# EAGLE library part TESEO-LIV3F (library teseo-liv3f)
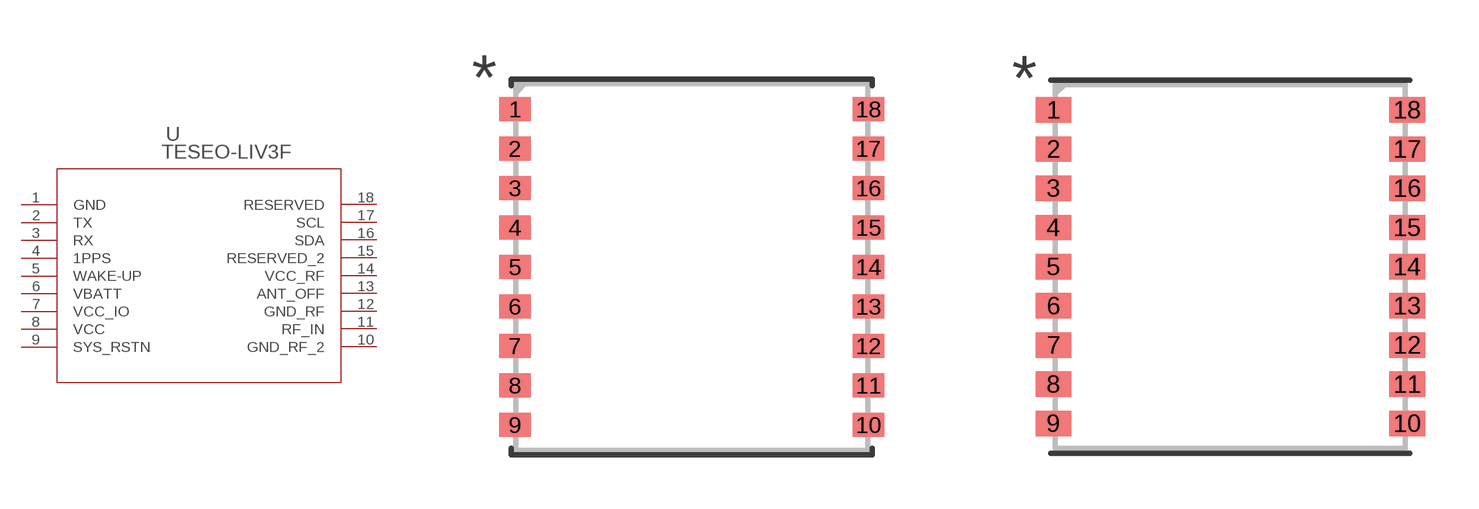
[diagram p0: symbol with the pads of LCC18_9P7X10P1; footprints LCC18_9P7X10P1, LCC18_9P7X10P1-M]

Designator prefix U

## TESEO-LIV3F (BUILT_BY: EMA_Jessica; COPYRIGHT: Copyright (C) 2018 Accelerated Designs. All rights reserved; MANUFACTURER_PART_NUMBER: TESEO-LIV3F; VENDOR: STMicroelectronics)  [LCC18_9P7X10P1]
1  GND  pwr
2  TX  out
3  RX  in
4  1PPS  out
5  WAKE-UP  in
6  VBATT  in
7  VCC_IO  pwr
8  VCC  pwr
9  SYS_RSTN  in
10  GND_RF_2  pwr
11  RF_IN  in
12  GND_RF  pwr
13  ANT_OFF  out
14  VCC_RF  pwr
15  RESERVED_2  in
16  SDA
17  SCL
18  RESERVED  in

## TESEO-LIV3FLCC18_9P7X10P1-M (BUILT_BY: EMA_Jessica; COPYRIGHT: Copyright (C) 2018 Accelerated Designs. All rights reserved; MANUFACTURER_PART_NUMBER: TESEO-LIV3F; VENDOR: STMicroelectronics)  [LCC18_9P7X10P1-M]
Pads as for LCC18_9P7X10P1

## TESEO-LIV3FLCC18_9P7X10P1-L (BUILT_BY: EMA_Jessica; COPYRIGHT: Copyright (C) 2018 Accelerated Designs. All rights reserved; MANUFACTURER_PART_NUMBER: TESEO-LIV3F; VENDOR: STMicroelectronics)  [LCC18_9P7X10P1-L]
Pads as for LCC18_9P7X10P1

## Footprint LCC18_9P7X10P1 (pad centres in mm)
smd 0.876 x 0.66: 1 -4.921,4.4; 2 -4.921,3.3; 3 -4.921,2.2; 4 -4.921,1.1; 5 -4.921,0; 6 -4.921,-1.1; 7 -4.921,-2.2; 8 -4.921,-3.3; 9 -4.921,-4.4; 10 4.921,-4.4; 11 4.921,-3.3; 12 4.921,-2.2; 13 4.921,-1.1; 14 4.921,0; 15 4.921,1.1; 16 4.921,2.2; 17 4.921,3.3; 18 4.921,4.4

## Footprint LCC18_9P7X10P1-M (pad centres in mm)
smd 1.003 x 0.711: 1 -4.959,4.4; 2 -4.959,3.3; 3 -4.959,2.2; 4 -4.959,1.1; 5 -4.959,0; 6 -4.959,-1.1; 7 -4.959,-2.2; 8 -4.959,-3.3; 9 -4.959,-4.4; 10 4.959,-4.4; 11 4.959,-3.3; 12 4.959,-2.2; 13 4.959,-1.1; 14 4.959,0; 15 4.959,1.1; 16 4.959,2.2; 17 4.959,3.3; 18 4.959,4.4

## Footprint LCC18_9P7X10P1-L (pad centres in mm)
smd 0.749 x 0.61: 1 -4.883,4.4; 2 -4.883,3.3; 3 -4.883,2.2; 4 -4.883,1.1; 5 -4.883,0; 6 -4.883,-1.1; 7 -4.883,-2.2; 8 -4.883,-3.3; 9 -4.883,-4.4; 10 4.883,-4.4; 11 4.883,-3.3; 12 4.883,-2.2; 13 4.883,-1.1; 14 4.883,0; 15 4.883,1.1; 16 4.883,2.2; 17 4.883,3.3; 18 4.883,4.4